# Altium integrated library SUBBOARD-power_stage.IntLib: 46 symbols
Pins are listed as number, name and electrical type; pins without a type are passive.

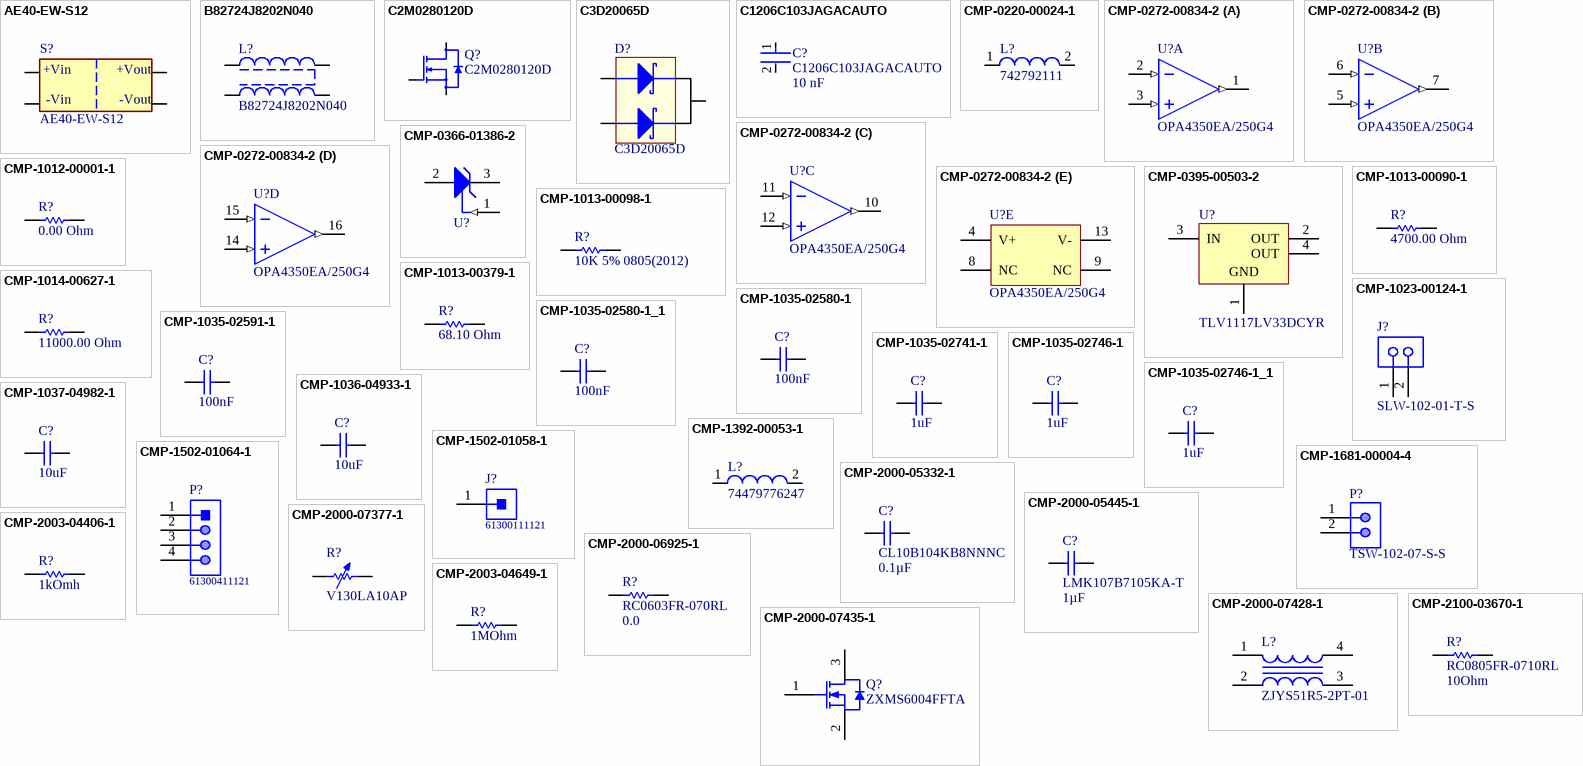
[diagram p0: symbols AE40-EW-S12 to CMP-2100-03670-1]

## AE40-EW-S12
designator S?
DC DC CONVERTER 12V 40W; Manufacturer: CUI; Min Input Voltage: 200V; Max Input Voltage: 1.2kV; Max Output Current: 3.33A; Isolation Voltage: 4kV; Number of Outputs: 1; Efficiency: 83%; Supplier 1: Mouser; Manufacturer Part Number: AE40-EW-S12; RoHS: No; Pricing 1: 1=50,17000, 5=49,78000, 10=49,39000, 25=47,82000, 50=45,46000, 100=42,33000 (USD); Mount: Through Hole; Case/Package: DIP; Min Operating Temperature: -25°C; Max Operating Temperature: 70°C; Voltage - Output 1: 12V; Max Power Dissipation: 40W; Features: OVP,OCP,SCP; ComponentLink1URL: https://www.cui.com/product/resource/digikeypdf/ae40-ew.pdf?src-supplier=Digi-Key; ComponentLink1Description: https://www.cui.com/product/resource/digikeypdf/ae40-ew.pdf?src-supplier=Digi-Key; Supplier Part Number 1: 490-AE40-EW-S12; Supplier 2: Digi-Key; Supplier Part Number 2: 102-4509-ND
footprint AE40-EW-S12
pins: 1 34, 2 33, 3 35, 5 36
text: +Vin; +Vout; -Vin; -Vout

## B82724J8202N040
designator L?
33mH @ 10kHz 2 Line Common Mode Choke Through Hole 2A DCR 200mOhm (Typ); Manufacturer: TDK Electronics Inc.; Number of Lines: 2; Voltage Rating - DC: 800V; Voltage Rating - AC: 200V; Inductance @ Frequency: 33mH @ 10kHz; Current rating (Max.): 2A; DC Resistance (DCR) (Max): 200mOhm; Mounting Type: Thorugh Hole; Height: 33.20mm; Supplier 1: Digi-Key; Supplier Part Number 1: 495-77248-ND
footprint B82724J8202N040 (RING CORE CHOKE 2X33MH 2A +70C)
pins: 1, 2, 3, 4

## C2M0280120D
designator Q?
SiC N-Channel MOSFET, 10 A, 1200 V, 3-Pin TO-247 Wolfspeed C2M0280120D; Manufacturer: Cree; Continuous Drain Current (ID): 10A; Drain to Source Voltage (Vdss): 1.2kV; Threshold Voltage: 2.8V; Max Power Dissipation: 62.5W; Supplier 1: Digi-Key; Manufacturer Part Number: C2M0280120D; Category: MOSFETs; Stock 1: 15119; Pricing 1: 1=5,43000, 100=5,22000, 500=5,08750 (USD); Case/Package: TO-247; Number of Pins: 3; Max Operating Temperature: 150°C; REACH SVHC: No SVHC; ComponentLink1URL: http://www.farnell.com/datasheets/1842462.pdf?src-supplier=Farnell; ComponentLink1Description: http://www.farnell.com/datasheets/1842462.pdf?src-supplier=Farnell; ComponentLink2URL: http://www.farnell.com/datasheets/1842462.pdf?src-supplier=Element14; ComponentLink2Description: http://www.farnell.com/datasheets/1842462.pdf?src-supplier=Element14; ComponentLink3URL: http://www.wolfspeed.com/downloads/dl/file/id/171/product/12/c2m0280120d.pdf?src-supplier=Mouser; ComponentLink3Description: http://www.wolfspeed.com/downloads/dl/file/id/171/product/12/c2m0280120d.pdf?src-supplier=Mouser; ComponentLink4URL: https://www.wolfspeed.com/downloads/dl/file/id/171/product/12/c2m0280120d.pdf?src-supplier=Digi-Key; ComponentLink4Description: https://www.wolfspeed.com/downloads/dl/file/id/171/product/12/c2m0280120d.pdf?src-supplier=Digi-Key; ComponentLink5URL: http://datasheet.octopart.com/C2M0280120D-Wolfspeed-datasheet-32811464.pdf?src-supplier=Element14; ComponentLink5Description: http://datasheet.octopart.com/C2M0280120D-Wolfspeed-datasheet-32811464.pdf?src-supplier=Element14; ComponentLink6URL: http://datasheet.octopart.com/C2M0280120D-Wolfspeed-datasheet-43791788.pdf?src-supplier=TME; ComponentLink6Description: http://datasheet.octopart.com/C2M0280120D-Wolfspeed-datasheet-43791788.pdf?src-supplier=TME; ComponentLink7URL: http://datasheet.octopart.com/C2M0280120D-Cree-datasheet-32811464.pdf?src-supplier=Newark; ComponentLink7Description: http://datasheet.octopart.com/C2M0280120D-Cree-datasheet-32811464.pdf?src-supplier=Newark; ComponentLink8URL: http://datasheet.octopart.com/C2M0280120D-Cree-datasheet-43791788.pdf?src-supplier=TME; ComponentLink8Description: http://datasheet.octopart.com/C2M0280120D-Cree-datasheet-43791788.pdf?src-supplier=TME; Supplier Part Number 1: C2M0280120D-ND; ComponentLink9Description: Dimensions datasheet; ComponentLink9URL: https://www.wolfspeed.com/downloads/dl/file/id/171/product/12/c2m0280120d.pdf
footprint C2M0280120D
footprint TO-247-3_hsa (TO-247-3 package, horizontal, heat sink above)
pins: 1 6, 2 8, 3 7

## C3D20065D
designator D?
Schottky Diodes & Rectifiers Schottky Diode 2X10A, 650V C3D20065D; Manufacturer: Cree; Element Configuration: Common Cathode; Forward Current: 55A; Supplier 2: Digi-Key; Manufacturer Part Number: C3D20065D; RoHS: Yes; Category: Rectifier Diodes; Stock 2: 143; Pricing 2: 1=10,17000, 100=8,47000, 500=7,26004, 1000=6,36001 (USD); Case/Package: TO-247; Number of Pins: 3; Max Repetitive Reverse Voltage (Vrrm): 650V; Packaging: Cut Tape; REACH SVHC: No SVHC; ComponentLink1URL: http://www.mouser.com/ds/2/90/3d20065d_silicon_carbide_schottky_diode_z_rec_rect-838556.pdf?src-supplier=Mouser; ComponentLink1Description: http://www.mouser.com/ds/2/90/3d20065d_silicon_carbide_schottky_diode_z_rec_rect-838556.pdf?src-supplier=Mouser; ComponentLink2URL: http://www.farnell.com/datasheets/1821848.pdf?src-supplier=Element14; ComponentLink2Description: http://www.farnell.com/datasheets/1821848.pdf?src-supplier=Element14; ComponentLink3URL: http://www.wolfspeed.com/media/downloads/102/C3D20065D.pdf?src-supplier=Digi-Key; ComponentLink3Description: http://www.wolfspeed.com/media/downloads/102/C3D20065D.pdf?src-supplier=Digi-Key; Supplier Part Number 2: C3D20065D-ND; Supplier 1: Mouser; Stock 1: 7; Pricing 1: 1 = 10.17000, 100 = 8.47000, 500 = 7.26000, 1000 = 6.36000 (USD); ComponentLink4URL: https://www.wolfspeed.com/downloads/dl/file/id/102/product/74/c3d20065d.pdf?src-supplier=Digi-Key; ComponentLink4Description: https://www.wolfspeed.com/downloads/dl/file/id/102/product/74/c3d20065d.pdf?src-supplier=Digi-Key; Supplier Part Number 1: 941-C3D20065D
footprint C3D20065D
footprint TO-247-3_hsa (TO-247-3 package, horizontal, heat sink above)
pins: 1 14, 2 15, 3 14

## C1206C103JAGACAUTO
designator C?  value 10 nF
Multilayer Ceramic Capacitors MLCC - SMD/SMT 250V 0.01uF C0G 1206 5% AEC-Q200; Manufacturer: KEMET; Temperature Coefficient: 15%; Automotive Grade: Grade 0; Tolerance: 0.05; Temperature Range High: +150°C; Package: C1206C-EB; Voltage Rating: 250 V; Device Class L1: Passive Components; Temperature: -55°C to +150°C; Manufacturer Part Number: C1206C103JAGACAUTO; Device Class L2: Capacitors; Temperature Characteristic: C0G; Octopart: https://octopart.com/c1206c103jagac7210-kemet-105793262; Temperature Range Low: -55°C; Height: 0.88mm; Lead Free: Yes; Mouser Description: Multilayer Ceramic Capacitors MLCC - SMD/SMT 250volts 10nF 5% C0G; Ipc Land Pattern Name: CAPC320160X78; RoHS: TRUE; Device Class L3: Ceramic Capacitors; Capacitance: 10 nF; Material: Ceramic; Automotive: Yes; Category: Cap; ComponentLink2URL: https://api.kemet.com/component-edge/download/specsheet/C1206C103JAGACAUTO.pdf; ComponentLink2Description: Datasheet; Supplier 1: Digi-Key; Supplier Part Number 1: 399-11903-1-ND
footprint FP-C1206C-EB-MFG
footprint FP-C1206C-EB-IPC_C
footprint FP-C1206C-EB-IPC_A
footprint FP-C1206C-EB-IPC_B
pins: 1, 2

## CMP-0220-00024-1
designator L?, comment 742792111
SMD EMI Suppression Ferrite Bead WE-CBF, Z = 26 Ohm; Manufacturer: Wurth Electronics; Impedance: 26 Ohm; ComponentLink2Description: Datasheet; PackageReference: SMD-1206; ComponentLink2URL: http://www.we-online.de/katalog/media/pdf/742792111.pdf; PackageVersion: 2007; DatasheetVersion: Dec-2005; PackageDescription: Chip Inductor, 2-Leads, Body 3.2 x 1.6 mm; ComponentLink1URL: http://www.we-online.com; ComponentLink1Description: Manufacturer Link; Manufacturer Part Number: 742792111
footprint SMD-1206 (Chip Inductor, 2-Leads, Body 3.2x1.6x1.3 mm)
pins: 1, 2

## CMP-0272-00834-2
designator U?, comment OPA4350EA/250G4
High-Speed, Single-Supply, Rail-to-Rail Operational Amplifier MicroAmplifier(TM) Series, 2.7 to 5.5 V, -55 to 150 degC, 16-pin SOP (DBQ16), Green (RoHS & no Sb/Br); Manufacturer: Texas Instruments; Iq per channel(Max)(mA): 7.5; Slew Rate(Typ)(V/us): 22; Sub Family: Low Input Bias Current Amp (<=10pA), Low Offset Voltage Amplifier (<=500uV), Low Supply Voltage Amplifier (<=2.7V), Precision Amplifier; Vn at 1kHz(Typ)(nV/rtHz): 18; CMRR(Min)(dB): 66; Offset Drift(Typ)(uV/C): 4; Vio (25C)(Max)(mV): 0.5; Total Supply Voltage(Min)(+5V is 5, +/-5V is 10): 2.7; IIB(Max)(pA): 10; Total Supply Voltage(Max)(+5V is 5, +/-5V is 10): 5.5; Eco-Plan: Green (RoHS & no Sb/Br); PackageVersion: 4073301-2/H, 10/2008; ComponentLink1Description: Manufacturer URL; ComponentLink2Description: Datasheet; Mounting Technology: Surface Mount; ComponentLink3Description: Package Specification; PackageReference: DBQ16; PartNumber: OPA4350EA/250G4; ComponentLink2URL: http://www.ti.com/general/docs/lit/getliterature.tsp?genericPartNumber=OPA4350&fileType=pdf; ComponentLink1URL: http://www.ti.com/; Code_JEDEC: MO-137; DatasheetVersion: SBOS099C; Number of Channels: 4; ComponentLink3URL: http://www.ti.com/litv/pdf/msoi004g; PackageDescription: 16-Pin, Plastic Small Outline, Body 3.9 x 4.9 mm, Pitch 0.635 mm; Manufacturer 1: Texas Instruments; Manufacturer Part Number 1: OPA4350EA/250G4
footprint TI-DBQ16_L (SOP, 16-Leads, Body 4.9x3.9mm, Pitch 0.635mm, IPC High Density)
footprint TI-DBQ16_N (SOP, 16-Leads, Body 4.9x3.9mm, Pitch 0.635mm, IPC Medium Density)
footprint TI-DBQ16_M (SOP, 16-Leads, Body 4.9x3.9mm, Pitch 0.635mm, IPC Low Density)
part A pins: 1 OUT A (out), 2 IN A- (in), 3 IN A+ (in)
part B pins: 5 IN B+ (in), 6 IN B- (in), 7 OUT B (out)
part C pins: 10 OUT C (out), 11 IN C- (in), 12 IN C+ (in)
part D pins: 14 IN D+ (in), 15 IN D- (in), 16 OUT D (out)
part E pins: 4 V+ (power), 8 NC, 9 NC, 13 V- (power)

## CMP-0366-01386-2
designator U?, comment TLVH431BIPK  (value not drawn)
Low-Voltage Adjustable Precision Shunt Regulator, 80 mA, -40 to 85 degC, 3-pin SOT-89 (PK), Green (RoHS & no Sb/Br); Manufacturer: Texas Instruments; Min Iz for Regulation(uA): 80; SubFamily: Shunt Voltage Reference; Temp Coeff(Max)(ppm/ degree C): 129; Initial Accuracy @ 25/deg C(%): 0.5; VO Adj(Max)(V): 18; Rating: Catalog; VO Adj(Min)(V): 1.24; Code_JEDEC: TO-243; PackageVersion: 4040234/D; PackageReference: PK0003A; ComponentLink1URL: http://www.ti.com/; Eco-Plan: Green (RoHS & no Sb/Br); PackageDescription: 3-Pin Plastic Small Outline, Body 2.5 x 4.5 mm, Pitch 1.5 mm; ComponentLink2URL: http://www.ti.com/general/docs/lit/getliterature.tsp?genericPartNumber=TLVH431B&fileType=pdf; ComponentLink2Description: Datasheet; DatasheetVersion: SLVS555I; ComponentLink3URL: http://www.ti.com/litv/pdf/mhsi001b; ComponentLink1Description: Manufacturer URL; PartNumber: TLVH431BIPK; ComponentLink3Description: Package Specification; Mounting Technology: Surface Mount; Iout/Iz(Max)(mA): 80; Manufacturer 1: Texas Instruments; Manufacturer Part Number 1: TLVH431BIPK
footprint PK0003A_L (SOT89, 3-Leads, Body 4.6x2.6mm, Pitch 1.5mm, IPC High Density)
footprint PK0003A_N (SOT89, 3-Leads, Body 4.6x2.6mm, Pitch 1.5mm, IPC Medium Density)
footprint PK0003A_M (SOT89, 3-Leads, Body 4.6x2.6mm, Pitch 1.5mm, IPC Low Density)
pins: 1 REF (in), 2 ANODE, 3 CATHODE

## CMP-0395-00503-2
designator U?, comment TLV1117LV33DCYR
Single Output LDO, 1 A, Fixed 3.3 V Output, 2 to 5.5 V Input, 4-pin SOT-223 (DCY), -40 to 125 degC, Green (RoHS & no Sb/Br); Manufacturer: Texas Instruments; Vout Adj(Min)(V): 3.3; Vdo(Typ)(mV): 1200; Iq(Typ)(mA): 0.05; Accuracy(%): 2; Iout(Max)(A): 1; SubFamily: Single Channel LDO; Vin(Max)(V): 5.5; PackageReference: DCY0004A; PackageDescription: 4-Pin Plastic Small Outline, Body 3.5 x 6.5 mm, Pitch 2.3 mm; Vout Adj(Max)(V): 3.3; Mounting Technology: Surface Mount; ComponentLink2Description: Datasheet; ComponentLink1Description: Manufacturer URL; PartNumber: TLV1117LV33DCYR; ComponentLink3Description: Package Specification; ComponentLink1URL: http://www.ti.com/; ComponentLink2URL: http://www.ti.com/general/docs/lit/getliterature.tsp?genericPartNumber=TLV1117LV33&fileType=pdf; Fixed Output Options(V): 3.3; PackageVersion: 4202506/B; Vin(Min)(V): 2; DatasheetVersion: SBVS160A; Eco-Plan: Green (RoHS & no Sb/Br); ComponentLink3URL: http://www.ti.com/litv/pdf/mpds094a; Code_JEDEC: TO-261; Manufacturer 1: Texas Instruments; Manufacturer Part Number 1: TLV1117LV33DCYR
footprint DCY0004A_N (SOT223, 4-Leads, Body 6.7x3.7mm, Pitch 2.3mm, IPC Medium Density)
footprint DCY0004A_L (SOT223, 4-Leads, Body 6.7x3.7mm, Pitch 2.3mm, IPC High Density)
footprint DCY0004A_M (SOT223, 4-Leads, Body 6.7x3.7mm, Pitch 2.3mm, IPC Low Density)
pins: 1 GND (power) "Ground pin", 2 OUT (power) "Regulated output voltage pin.", 3 IN (power) "Input pin.", 4 OUT (power) "Regulated output voltage pin."

## CMP-1012-00001-1
designator R?, comment value 0.00 Ohm  (hidden comment: Jumper 0603(1608))
Jumper 0603 (1608 Metric); Manufacturer: Vishay Dale; Manufacturer Part Number: CRCW06030000Z0EC; Manufacturer: Yageo; Manufacturer Part Number: RC0603JR-070RL; Manufacturer: Vishay; Manufacturer Part Number: CRCW0603-0000Z0EA; Manufacturer Part Number: CRCW06030000Z0TA; Manufacturer: Bourns; Manufacturer Part Number: CR0603-J/-000ELF; Manufacturer Part Number: CRCW06030000Z0EB; Manufacturer: Panasonic; Manufacturer Part Number: ERJ-3GEY0R00V; Case-Metric: 1608; Power: None; Case-EIA: 0603; Technology: SMT; Tolerance: None
footprint RESC0603(1608)_N (Chip Resistor, Body 1.6x0.8mm, IPC Medium Density)
footprint RESC0603(1608)_L (Chip Resistor, Body 1.6x0.8mm, IPC High Density)
footprint RESC0603(1608)_M (Chip Resistor, Body 1.6x0.8mm, IPC Low Density)
pins: 1, 2
1 alternate drawing of the same symbol

## CMP-1013-00090-1
designator R?, comment value 4700.00 Ohm  (hidden comment: 4K7 5% 0805(2012))
4K7 0.125W 5% 0805 (2012 Metric)  SMD; Manufacturer 1: Rohm; Manufacturer Part Number 1: MCR10EZPJ472; Case-EIA: 0805; Case-Metric: 2012; Power: 0.125 W; Tolerance: 5 %; Technology: SMT; Manufacturer 2: Vishay Dale; Manufacturer Part Number 2: CRCW08054K70JNTB; Manufacturer 3: Yageo; Manufacturer Part Number 3: RC0805JR-074K7L; Manufacturer 4: Vishay Dale; Manufacturer Part Number 4: CRCW08054K70JNTA; Manufacturer 5: Panasonic; Manufacturer Part Number 5: ERJ-6GEYJ472V; Manufacturer 6: Vishay Dale; Manufacturer Part Number 6: CRCW08054K70JNEA; Manufacturer 7: Bourns; Manufacturer Part Number 7: CR0805-JW-472ELF; Manufacturer 8: Vishay Dale; Manufacturer Part Number 8: CRCW08054K70JNEC; Manufacturer 9: Vishay Dale; Manufacturer Part Number 9: CRCW08054K70JNEB
footprint RESC0805(2012)_N (Chip Resistor, Body 2.0x1.3mm, IPC Medium Density)
footprint RESC0805(2012)_L (Chip Resistor, Body 2.0x1.3mm, IPC High Density)
footprint RESC0805(2012)_M (Chip Resistor, Body 2.0x1.3mm, IPC Low Density)
pins: 1, 2
1 alternate drawing of the same symbol

## CMP-1013-00098-1
designator R?, comment 10K 5% 0805(2012)
10K 0.125W 5% 0805 (2012 Metric)  SMD; Manufacturer: Vishay Dale; Manufacturer Part Number: CRCW080510K0JNEC; Manufacturer Part Number: CRCW080510K0JNTB; Manufacturer: Rohm; Manufacturer Part Number: MCR10EZPJ103; Manufacturer: Bourns; Manufacturer Part Number: CR0805-JW-103ELF; Manufacturer Part Number: CRCW080510K0JNTC; Manufacturer: Yageo; Manufacturer Part Number: RC0805JR-0710KL; Manufacturer Part Number: CRCW080510K0JNEA; Manufacturer: Panasonic; Manufacturer Part Number: ERJ-6GEYJ103V; Manufacturer Part Number: CRCW080510K0JNEB; Manufacturer Part Number: CRCW080510K0JNTA; Case-EIA: 0805; Case-Metric: 2012; Value: 10000.00 Ohm; Power: 0.125 W; Technology: SMT; Tolerance: 5 %
footprint RESC0805(2012)_L (Chip Resistor, Body 2.0x1.3mm, IPC High Density)
footprint RESC0805(2012)_M (Chip Resistor, Body 2.0x1.3mm, IPC Low Density)
footprint RESC0805(2012)_N (Chip Resistor, Body 2.0x1.3mm, IPC Medium Density)
pins: 1, 2
1 alternate drawing of the same symbol

## CMP-1013-00379-1
designator R?, comment value 68.10 Ohm  (hidden comment: 68R1 1% 0805(2012))
68R1 0.125W 1% 0805 (2012 Metric)  SMD; Manufacturer: Panasonic; Manufacturer Part Number: ERJ-6ENF68R1V; Manufacturer: Vishay; Manufacturer Part Number: CRCW080568R1FKEA; Manufacturer: Yageo; Manufacturer Part Number: RC0805FR-0768R1L; Manufacturer: Vishay Dale; Manufacturer Part Number: CRCW080568R1FKTB; Manufacturer: Bourns; Manufacturer Part Number: CR0805-FX-68R1ELF; Manufacturer: Rohm; Manufacturer Part Number: MCR10EZPF68R1; Manufacturer Part Number: CRCW080568R1FKEB; Manufacturer Part Number: CRCW080568R1FKTA; Case-EIA: 0805; Case-Metric: 2012; Power: 0.125 W; Tolerance: 1 %; Technology: SMT
footprint RESC0805(2012)_L (Chip Resistor, Body 2.0x1.3mm, IPC High Density)
footprint RESC0805(2012)_N (Chip Resistor, Body 2.0x1.3mm, IPC Medium Density)
footprint RESC0805(2012)_M (Chip Resistor, Body 2.0x1.3mm, IPC Low Density)
pins: 1, 2
1 alternate drawing of the same symbol

## CMP-1014-00627-1
designator R?, comment value 11000.00 Ohm  (hidden comment: 11K 1% 1206(3216))
11K 0.25W 1% 1206 (3216 Metric)  SMD; Manufacturer: Vishay Dale; Manufacturer Part Number: CRCW120611K0FKEB; Manufacturer: Bourns; Manufacturer Part Number: CR1206-FX-1102ELF; Manufacturer: Rohm; Manufacturer Part Number: MCR18EZPF1102; Manufacturer Part Number: CRCW120611K0FKTC; Manufacturer: Yageo; Manufacturer Part Number: RC1206FR-0711KL; Manufacturer: Panasonic; Manufacturer Part Number: ERJ-8ENF1102V; Manufacturer Part Number: CRCW120611K0FKTA; Manufacturer: Vishay; Manufacturer Part Number: CRCW120611K0FKEA; Manufacturer Part Number: CRCW120611K0FKEC; Case-Metric: 3216; Case-EIA: 1206; Technology: SMT; Power: 0.25 W; Tolerance: 1 %
footprint RESC1206(3216)_N (Chip Resistor, Body 3.2x1.6mm, IPC Medium Density)
footprint RESC1206(3216)_L (Chip Resistor, Body 3.2x1.6mm, IPC High Density)
footprint RESC1206(3216)_M (Chip Resistor, Body 3.2x1.6mm, IPC Low Density)
pins: 1, 2
1 alternate drawing of the same symbol

## CMP-1023-00124-1
designator J?, comment SLW-102-01-T-S
Low Profile Socket Strips, Through-hole, Vertical, -55 to 105 degC, 2.54 mm Pitch, 2-Pin, Female, RoHS; Manufacturer: Samtec; Pitch: 2.54 mm; System: Connector; ComponentLink2Description: Datasheet; PackageReference: SLW-102-01-X-S; Orientation: Vertical; PartNumber: SLW-102-01-T-S; ComponentLink3URL: http://www.samtec.com/documents/webfiles/cpdf/SLW-1XX-01-X-X-MKT.pdf; DatasheetVersion: F-214; Mounting Technology: Through-hole; ComponentLink3Description: Package Specification; ComponentLink2URL: http://www.samtec.com/documents/webfiles/pdf/SLW.PDF; PackageDescription: Low Profile Socket Strip; Temperature Range: -55 to 105 degC; ComponentLink1Description: Manufacturer URL; PackageVersion: X, 9/1987; RoHS: True; ComponentLink1URL: http://www.samtec.com; Manufacturer Part Number: SLW-102-01-T-S
footprint SMTC-SLW-102-01-X-S (Low Profile Socket Strip, 1x2 Pins, Vertical, 2.54mm Pitch, Female)
pins: 1, 2

## CMP-1035-02580-1
designator C?, comment value 100nF  (hidden comment: CAP 100nF 10V 0603(1608))
CAP 100nF 10V ±10% 0603 (1608 Metric) Thickness 1mm SMD; Manufacturer 1: KEMET; Manufacturer Part Number 1: C0603C104K8RACTU; Tolerance: Â±10%; Case-EIA: 0603; Case-Metric: 1608; Max Thickness: 1 mm; Rated Voltage: 10 V; Technology: SMT; Manufacturer 2: Kyocera AVX; Manufacturer Part Number 2: 0603ZC104KAT2A; Manufacturer 3: Vishay Vitramon; Manufacturer Part Number 3: VJ0603Y104KXQPW1BC; Manufacturer 4: KEMET; Manufacturer Part Number 4: C0603C104K8RACTM; Manufacturer 5: Kyocera AVX; Manufacturer Part Number 5: 0603ZC104KAT4A; Manufacturer 6: KEMET; Manufacturer Part Number 6: C0603C104K8RAC; Manufacturer 7: Vishay Vitramon; Manufacturer Part Number 7: VJ0603Y104KXQCW1BC; Manufacturer 8: Kyocera AVX; Manufacturer Part Number 8: 0603ZC104KAT9A
footprint CAPC0603(1608)100_M (Chip Capacitor, Body 1.6x0.8mm, Height 1.0mm, IPC Low Density)
footprint CAPC0603(1608)100_N (Chip Capacitor, Body 1.6x0.8mm, Height 1.0mm, IPC Medium Density)
footprint CAPC0603(1608)100_L (Chip Capacitor, Body 1.6x0.8mm, Height 1.0mm, IPC High Density)
pins: 1, 2
1 alternate drawing of the same symbol

## CMP-1035-02580-1_1
designator C?, comment value 100nF  (hidden comment: CAP 100nF 10V 0603(1608))
CAP 100nF 10V ±10% 0603 (1608 Metric) Thickness 1mm SMD; Manufacturer: KEMET; Manufacturer Part Number: C0603C104K8RACTU; Manufacturer: Kyocera AVX; Manufacturer Part Number: 0603ZC104KAT2A; Manufacturer: Vishay Vitramon; Manufacturer Part Number: VJ0603Y104KXQPW1BC; Manufacturer Part Number: C0603C104K8RACTM; Manufacturer Part Number: 0603ZC104KAT4A; Manufacturer Part Number: C0603C104K8RAC; Manufacturer Part Number: VJ0603Y104KXQCW1BC; Manufacturer Part Number: 0603ZC104KAT9A; Tolerance: Â±10%; Case-EIA: 0603; Case-Metric: 1608; Max Thickness: 1 mm; Rated Voltage: 10 V; Technology: SMT
footprint CAPC0603(1608)100_M (Chip Capacitor, Body 1.6x0.8mm, Height 1.0mm, IPC Low Density)
footprint CAPC0603(1608)100_N (Chip Capacitor, Body 1.6x0.8mm, Height 1.0mm, IPC Medium Density)
footprint CAPC0603(1608)100_L (Chip Capacitor, Body 1.6x0.8mm, Height 1.0mm, IPC High Density)
pins: 1, 2
1 alternate drawing of the same symbol

## CMP-1035-02591-1
designator C?, comment value 100nF  (hidden comment: CAP 100nF 50V 0603(1608))
CAP 100nF 50V ±5% 0603 (1608 Metric) Thickness 1mm SMD; Manufacturer 1: KEMET; Manufacturer Part Number 1: C0603C104J5RACTM; Tolerance: Â±5%; Case-Metric: 1608; Case-EIA: 0603; Rated Voltage: 50 V; Max Thickness: 1 mm; Technology: SMT; Manufacturer 2: KEMET; Manufacturer Part Number 2: C0603C104J5RAC; Manufacturer 3: Yageo; Manufacturer Part Number 3: CC0603JRX7R9BB104; Manufacturer 4: Kyocera AVX; Manufacturer Part Number 4: 06035C104JAT2A; Manufacturer 5: Vishay Vitramon; Manufacturer Part Number 5: VJ0603Y104JXACW1BC; Manufacturer 6: KEMET; Manufacturer Part Number 6: C0603C104J5RACTU; Manufacturer 7: Vishay; Manufacturer Part Number 7: VJ0603Y104JXAPW1BC
footprint CAPC0603(1608)100_L (Chip Capacitor, Body 1.6x0.8mm, Height 1.0mm, IPC High Density)
footprint CAPC0603(1608)100_N (Chip Capacitor, Body 1.6x0.8mm, Height 1.0mm, IPC Medium Density)
footprint CAPC0603(1608)100_M (Chip Capacitor, Body 1.6x0.8mm, Height 1.0mm, IPC Low Density)
pins: 1, 2
1 alternate drawing of the same symbol

## CMP-1035-02741-1
designator C?, comment value 1uF  (hidden comment: CAP 1uF 25V 0603(1608))
CAP 1uF 25V ±20% 0603 (1608 Metric) Thickness 1mm SMD; Manufacturer 1: TDK; Manufacturer Part Number 1: C1608X7R1E105M; Tolerance: Â±20%; Case-EIA: 0603; Case-Metric: 1608; Max Thickness: 1 mm; Technology: SMT; Rated Voltage: 25 V; Manufacturer 2: TDK; Manufacturer Part Number 2: C1608X6S1E105M; Manufacturer 3: TDK; Manufacturer Part Number 3: C1608X5R1E105M; Manufacturer 4: KEMET; Manufacturer Part Number 4: C0603C105M3PACTU; Manufacturer 5: KEMET; Manufacturer Part Number 5: C0603C105M3PAC
footprint CAPC0603(1608)100_M (Chip Capacitor, Body 1.6x0.8mm, Height 1.0mm, IPC Low Density)
footprint CAPC0603(1608)100_N (Chip Capacitor, Body 1.6x0.8mm, Height 1.0mm, IPC Medium Density)
footprint CAPC0603(1608)100_L (Chip Capacitor, Body 1.6x0.8mm, Height 1.0mm, IPC High Density)
pins: 1, 2
1 alternate drawing of the same symbol

## CMP-1035-02746-1
designator C?, comment value 1uF  (hidden comment: CAP 1uF 50V 0603(1608))
CAP 1uF 50V ±20% 0603 (1608 Metric) Thickness 1mm SMD; Manufacturer 1: TDK; Manufacturer Part Number 1: C1608X5R1H105M; Tolerance: Â±20%; Case-EIA: 0603; Case-Metric: 1608; Technology: SMT; Max Thickness: 1 mm; Rated Voltage: 50 V; Manufacturer 2: TDK; Manufacturer Part Number 2: C1608X6S1H105M
footprint CAPC0603(1608)100_N (Chip Capacitor, Body 1.6x0.8mm, Height 1.0mm, IPC Medium Density)
footprint CAPC0603(1608)100_M (Chip Capacitor, Body 1.6x0.8mm, Height 1.0mm, IPC Low Density)
footprint CAPC0603(1608)100_L (Chip Capacitor, Body 1.6x0.8mm, Height 1.0mm, IPC High Density)
pins: 1, 2
1 alternate drawing of the same symbol

## CMP-1035-02746-1_1
designator C?, comment value 1uF  (hidden comment: CAP 1uF 50V 0603(1608))
CAP 1uF 50V ±20% 0603 (1608 Metric) Thickness 1mm SMD; Manufacturer: TDK; Manufacturer Part Number: C1608X5R1H105M; Manufacturer Part Number: C1608X6S1H105M; Tolerance: Â±20%; Case-EIA: 0603; Case-Metric: 1608; Technology: SMT; Max Thickness: 1 mm; Rated Voltage: 50 V
footprint CAPC0603(1608)100_N (Chip Capacitor, Body 1.6x0.8mm, Height 1.0mm, IPC Medium Density)
footprint CAPC0603(1608)100_M (Chip Capacitor, Body 1.6x0.8mm, Height 1.0mm, IPC Low Density)
footprint CAPC0603(1608)100_L (Chip Capacitor, Body 1.6x0.8mm, Height 1.0mm, IPC High Density)
pins: 1, 2
1 alternate drawing of the same symbol

## CMP-1036-04933-1
designator C?, comment value 10uF  (hidden comment: CAP 10uF 25V 0805(2012))
CAP 10uF 25V ±20% 0805 (2012 Metric) Thickness 1.45mm SMD; Manufacturer 1: TDK; Manufacturer Part Number 1: C2012X5R1E106M; Case-EIA: 0805; Tolerance: Â±20%; Case-Metric: 2012; Max Thickness: 1.45 mm; Rated Voltage: 25 V; Technology: SMT
footprint CAPC0805(2012)145_N (Chip Capacitor, Body 2.0x1.2mm, Height 1.45mm, IPC Medium Density)
footprint CAPC0805(2012)145_L (Chip Capacitor, Body 2.0x1.2mm, Height 1.45mm, IPC High Density)
footprint CAPC0805(2012)145_M (Chip Capacitor, Body 2.0x1.2mm, Height 1.45mm, IPC Low Density)
pins: 1, 2
1 alternate drawing of the same symbol

## CMP-1037-04982-1
designator C?, comment value 10uF  (hidden comment: CAP 10uF 50V 1206(3216))
CAP 10uF 50V ±10% 1206 (3216 Metric) Thickness 1.9mm SMD; Manufacturer 1: TDK; Manufacturer Part Number 1: C3216X5R1H106K; Case-EIA: 1206; Tolerance: Â±10%; Case-Metric: 3216; Technology: SMT; Max Thickness: 1.9 mm; Rated Voltage: 50 V
footprint CAPC1206(3216)190_M (Chip Capacitor, Body 3.2x1.6mm, Height 1.9mm, IPC Low Density)
footprint CAPC1206(3216)190_N (Chip Capacitor, Body 3.2x1.6mm, Height 1.9mm, IPC Medium Density)
footprint CAPC1206(3216)190_L (Chip Capacitor, Body 3.2x1.6mm, Height 1.9mm, IPC High Density)
pins: 1, 2
1 alternate drawing of the same symbol

## CMP-1392-00053-1
designator L?, comment 74479776247
Power Multilayer Inductor WE-PMI, L=4.70 µH; Manufacturer: Wuerth Elektronik; Manufacturer: Wurth Electronics; Inductance: 4.70 ÂµH; ComponentLink2URL: http://katalog.we-online.de/kataloge/eisos/media/pdf/74479776247A.pdf; PartNumber: 74479776247; ComponentLink2Description: Datasheet; ComponentLink1Description: Manufacturer URL; PackageReference: SMD 0806; ComponentLink1URL: http://www.we-online.com; Manufacturer Part Number: 74479776247
footprint SMD 0806 (Chip Inductor, 2-Leads, Body 2.1x1.6mm, IPC Medium Density)
pins: 1, 2

## CMP-1502-01058-1
designator J?, comment 61300111121
THT Vertical Pin Header WR-PHD, Pitch 2.54 mm, Single Row, 1 pins; Manufacturer: Wurth Elektronik; Manufacturer: Wurth Electronics; Gender: Male; Working Voltage: 250VAC; Withstanding Voltage: 500VAC; Pin Number: 1; Contact Resistance: 20mOhm; Rated Current: 3A; Pitch: 2.54mm; Mounting Technology: THT; Datasheet URL: https://katalog.we-online.de/em/datasheet/6130xx11121.pdf; Manufacturer URL: http://www.we-online.de; Operating Temperature: -40to105degC; Publisher: WurthElektronik; Part Number: 61300111121; Row Number: Single; Package Reference: 61300111121; Orientation: Vertical; Packaging: Bag; Manufacturer Part Number: 61300111121
footprint 61300111121 (Pin Header, pitch 2.54 mm, THT, Vertical, single row, 1p)
pins: 1

## CMP-1502-01064-1
designator P?, comment 61300411121
THT Vertical Pin Header WR-PHD, Pitch 2.54 mm, Single Row, 4 pins; Manufacturer: Wurth Elektronik; Manufacturer 1: Wurth Electronics; Withstanding Voltage: 500VAC; Rated Current: 3A; Working Voltage: 250VAC; Pin Number: 4; Gender: Male; Contact Resistance: 20mOhm; Pitch: 2.54mm; Manufacturer URL: http://www.we-online.de; Operating Temperature: -40to105degC; Packaging: Bag; Mounting Technology: THT; Package Reference: 61300411121; Datasheet URL: https://katalog.we-online.de/em/datasheet/6130xx11121.pdf; Publisher: WurthElektronik; Part Number: 61300411121; Row Number: Single; Orientation: Vertical; Manufacturer Part Number 1: 61300411121
footprint 61300411121 (Pin Header, pitch 2.54 mm, THT, Vertical, single row, 4p)
pins: 1, 2, 3, 4

## CMP-1681-00004-4
designator P?, comment TSW-102-07-S-S
Male Header, Pitch 2.54 mm, 1 x 2 Position, Height 8.38 mm, Tail Length 2.54 mm, -55 to 125 degC, RoHS, Bulk; Manufacturer: Samtec; Rows: 1; ComponentLink1URL: http://www.samtec.com/; Contact Finish: Gold; Mounting Technology: Through Hole; PackageReference: TSW-102-07-S-S; RoHSCompliant: true; Pins: 2; Contact Material: Bronze; ComponentLink2Description: Datasheet; Max Operating Temperature: 125 degC; Min Operating Temperature: -55 degC; Height: 8.38 mm; Packaging: Bulk; ComponentLink1Description: Manufacturer URL; PackageDescription: Male Header, Pitch 2.54 mm, 1 x 2 Position, Height 8.38 mm, Tail Length 2.54 mm; Colour: Black; Contact Plating: Gold; Length: 5.08 mm; ComponentLink2URL: http://suddendocs.samtec.com/catalog_english/tsw_th.pdf; DatasheetVersion: 12/2015; Mount: Through Hole; Lead Pitch: 0.1 inch; REACH SVHC: No SVHC; Package Quantity: 1; Manufacturer Part Number: TSW-102-07-S-S
footprint SMTC-TSW-102-07-S-S (Header, 2-Leads, Body 5.08x2.54mm, Pitch 2.54mm)
pins: 1, 2

## CMP-2000-05332-1
designator C?, comment CL10B104KB8NNNC  Capacitance: 0.1µF
Multi-layer Ceramic Capacitor, -55 to 125 degC, 2-Pin SMD (0603), RoHS, Tape and Reel; Manufacturer: Samsung Electro-Mechanics; Manufacturer: Samsung; Rated Voltage: 50V; Dielectric: X7R; Tolerance (%): ±10%; Case Size/Dimension: 0603; Datasheet URL: https://datasheet.ciiva.com/29198/456651-da-01-en-vs-kondensator-0605-29198839.pdf; Manufacturer URL: http://www.samsungsem.com/global/index.jsp; Datasheet Version: Nov-10; Manufacturer Part Number: CL10B104KB8NNNC
footprint SAMS-C0603-2_M (Chip Capacitor, 2-Leads, Body 1.70x0.90mm, IPC Low Density)
footprint SAMS-C0603-2_N (Chip Capacitor, 2-Leads, Body 1.70x0.90mm, IPC Medium Density)
footprint SAMS-C0603-2_L (Chip Capacitor, 2-Leads, Body 1.70x0.90mm, IPC High Density)
pins: 1, 2

## CMP-2000-05445-1
designator C?, comment LMK107B7105KA-T  Capacitance: 1µF
High Value Multilayer Ceramic Capacitor, 1 uF, +/- 10%, 10 V, -55 to 125 degC, 0603 (1608 Metric), RoHS, Tape and Reel; Manufacturer: Taiyo Yuden; PCN Part Number: X5R,X7RDielectrics23/Jan/2008; Voltage - Rated: 10V; Temperature Coefficient: X7R; Other Names: 587-1242-1; Kits: 587-1797-KIT-ND-KITCAPCERHICAP0603&0805S; Online Catalog: MSeries; Catalog Drawings: xMKSeries_0603_0.8; Package / Case: 0603(1608Metric); Features: -; Package Description: 2-Pin Surface Mount Device, Body 1.6 x 0.8 mm; Lead Style: -; Manufacturer URL: http://www.t-yuden.com/; Package Reference: 603; Datasheet URL: https://datasheet.ciiva.com/30248/464lmk107b7105ka-t-30248417.pdf; Tolerance: ±10%; Size / Dimension: 0.063"Lx0.031"W(1.60mmx0.80mm); Family: CeramicCapacitors; Standard Package: 1; Height - Seated (Max): -; Series: M; Mounting Type: SurfaceMount,MLCC; Thickness (Max): 0.035"(0.90mm); Packaging: CutTape(CT); Operating Temperature: -55degC~125degC; Applications: GeneralPurpose; Lead Spacing: -; Datasheet Version: Apr-14; Ratings: -; Category: Capacitors; Manufacturer Part Number: LMK107B7105KA-T
footprint CAPC1608X90X35ML10T25 (Chip Capacitor, 2-Leads, Body 1.70x0.90mm, IPC Low Density)
footprint CAPC1608X90X35NL10T25 (Chip Capacitor, 2-Leads, Body 1.70x0.90mm, IPC Medium Density)
footprint CAPC1608X90X35LL10T25 (Chip Capacitor, 2-Leads, Body 1.70x0.90mm, IPC High Density)
pins: 1, 2

## CMP-2000-06925-1
designator R?, comment RC0603FR-070RL  Resistance (Ohms): 0.0
Chip Resistor, 0 Ohm, +/- 1%, 100 mW, -55 to 155 degC, 0603 (1608 Metric), RoHS, Tape and Reel; Manufacturer: Yageo; Power (Watts): 0.1W,1/10W; HTML Datasheet: RCSeries,LSuffixDatasheet.html; PCN Other: RC/AC0603/0805/120622/Jan/2013; Online Catalog: RC0603Series; EDA / CAD Models: DownloadfromAcceleratedDesigns; Other Names: 311-0.0HRTRQ3106287ARC0603FR-070RL-ND; Catalog Drawings: ThickFilmResistorSide; Tolerance: Jumper; Manufacturer URL: http://www.yageo.com/; Family: ChipResistor-SurfaceMount; Product Training Modules: ChipResistor; Number of Terminations: 2; Package / Case: 0603(1608Metric); Datasheet Version: Rev. 7, 05/2017; Operating Temperature: -55°C~155°C; Height: 0.022"(0.55mm); Packaging: Tape&Reel(TR); Size / Dimension: 0.063"Lx0.031"W(1.60mmx0.80mm); Package Description: 2-Pin Surface Mount Device, Body 1.6 x 0.8 mm; Package Reference: 0603; Mounting Technology: SurfaceMount; Features: MoistureResistant; Temperature Coefficient: -; Supplier Device Package: 0603; Datasheet URL: http://www.yageo.com/documents/recent/PYu-RC_Group_51_RoHS_L_7.pdf; Standard Package: 5,000; Series: RC; Category: Resistors; Composition: ThickFilm; Manufacturer Part Number: RC0603FR-070RL
footprint RESC1608X55X25LL10T15 (Chip Resistor, 2-Leads, Body 1.60x0.80mm, IPC High Density)
footprint RESC1608X55X25ML10T15 (Chip Resistor, 2-Leads, Body 1.70x0.90mm, IPC Low Density)
footprint RESC1608X55X25NL10T15 (Chip Resistor, 2-Leads, Body 1.70x0.90mm, IPC Medium Density)
pins: 1, 2

## CMP-2000-07377-1
designator R?, comment V130LA10AP
LA Varistor Series, 50 A, -55 to 85 degC, 2-Pin THD, RoHS, Bulk; Manufacturer: Littelfuse; Rated Voltage: 175V; Capacitance: 1000pF; Peak Output Current: 4500A; Clamping Voltage-Max: 340V; RMS Voltage-Max: 130V; Datasheet URL: https://datasheet.ciiva.com/11834/0900766b80785545-11834301.pdf; Package Description: 2-Pin Through Hole Device, Body 17 x 5.6 mm, Pitch 7.5 mm; Manufacturer URL: http://www.littelfuse.com/; Package Reference: V130LA10AP; Datasheet Version: 07/2006; Mounting Technology: ThroughHole
footprint LFUS-V130LA10AP (THD, 2-Leads, Body 17x5.6mm, Pitch 7.5mm)
pins: 1, 2

## CMP-2000-07428-1
designator L?, comment ZJYS51R5-2PT-01
Common Mode Filter, 2 A, 120 mOhm, -25 to 85 degC, 4-Pin SMD, RoHS, Tape and Reel; Manufacturer: TDK; Manufacturer Part Number: ZJYS51R52PT01; SVHC: NoSVHC(15-Jun-2015); Impedance: 200ohm; Product Range: ZJYS51Series; Common Mode Filter Case: 6.86mmx5.5mmx4.57mm; Rated Current: 2A; Package Reference: ZJYS51R5-2PT-01; Package Description: 4-Pin Surface Mount Device, Body 6.86 x 5.5 mm, Pitch 2.54 mm; Automotive Qualification Standard: -; Manufacturer URL: http://www.tdk.com/; Datasheet Version: 05/2016; Datasheet URL: https://product.tdk.com/info/en/documents/wdcatalog/withdrawn_cmf_commercial_signal_zjys51r5_en.pdf; Mounting Technology: SurfaceMount; Inductance: -
footprint TDK-ZJYS51R5-2PT-01_V (SMD, 4-Leads, Body 6.86x5.5mm, Pitch 2.54mm)
pins: 1, 2, 3, 4

## CMP-2000-07435-1
designator Q?, comment ZXMS6004FFTA
N-Channel Self Protected Enhancement Mode Intellifet(TM) MOSFET, 60 V, 1.3 A, -40 to 150 degC, 3-Pin SOT23, RoHS, Tape and Reel; Manufacturer: Diodes Inc; Manufacturer: Diodes Zetex; Voltage - Load: 60V(Max); Current - Output (Max): 1.3A; Featured Product: ZXMS6004FF60VN-ChannelMOSFET; Product Training Modules: IntelliFET's; Rds On (Typ): 350mOhm; Input Type: Non-Inverting; Interface: On/Off; Number of Outputs: 1; Ratio - Input: Output:1:1; Output Configuration: LowSide; Voltage - Supply (Vcc/Vdd): 3.3V,5V; PCN Design/Specification: PartMarkingUpdate25/Sep/2015; Switch Type: GeneralPurpose; Fault Protection: CurrentLimiting(Fixed),OverTemperature,OverVoltage; Other Names: ZXMS6004FFTR; Category: IntegratedCircuits(ICs); Operating Temperature: -40°C~150°C(TJ); Features: AutoRestart; Manufacturer URL: http://www.diodes.com/; Datasheet URL: https://datasheet.ciiva.com/15109/getdatasheetpartid-411522-15109086.pdf; Package Reference: SOT23F-3; Family: PMIC-PowerDistributionSwitches,LoadDrivers; Package Description: 3-Pin Small Outline Transistor Flat Lead, Body 2.9 x 1.6 mm, Pitch 0.95 mm; Output Type: N-Channel; Supplier Device Package: SOT-23F; RoHS Information: RoHSCertofCompliance; Package / Case: SOT-23-3FlatLeads; Packaging: Tape&Reel(TR); Datasheet Version: Rev. 6-2, 10/2014; Mounting Technology: SurfaceMount; Series: Automotive,AEC-Q101,INTELLIFET®; Online Catalog: GeneralPurpose; Standard Package: 3,000; Manufacturer Part Number: ZXMS6004FFTA
footprint DIOD-SOT23F-3_V (SOTFL, 3-Leads, Body 2.9x1.6mm, Pitch 0.95mm)
pins: 1 G, 2 S, 3 D

## CMP-2003-04406-1
designator R?, comment 1kOmh
Part Number: ERA8AEB102V; Manufacturer: Panasonic; Manufacturer Part Number: ERA8AEB102V
footprint RESC3216X70X50LL20T25 (Chip Resistor, 2-Leads, Body 3.20x1.60mm, IPC High Density)
footprint RESC3216X70X50ML20T25 (Chip Resistor, 2-Leads, Body 3.20x1.60mm, IPC Low Density)
footprint RESC3216X70X50NL20T25 (Chip Resistor, 2-Leads, Body 3.20x1.60mm, IPC Medium Density)
pins: 1, 2
1 alternate drawing of the same symbol

## CMP-2003-04649-1
designator R?, comment 1MOhm
Part Number: TNPW12061M00BEEA; Manufacturer: Vishay Dale; Manufacturer Part Number: TNPW12061M00BEEA
footprint RESC3216X65X50LL15T25 (Chip Resistor, 2-Leads, Body 3.20x1.60mm, IPC High Density)
footprint RESC3216X65X50NL15T25 (Chip Resistor, 2-Leads, Body 3.20x1.60mm, IPC Medium Density)
footprint RESC3216X65X50ML15T25 (Chip Resistor, 2-Leads, Body 3.20x1.60mm, IPC Low Density)
pins: 1, 2
1 alternate drawing of the same symbol

## CMP-2100-03670-1
designator R?, comment RC0805FR-0710RL  Resistance: 10Ohm
Chip Resistor, 10 Ohm, +/- 1%, 0.125 W, -55 to 155 degC, 0805 (2012 Metric), RoHS, Tape and Reel; Manufacturer: Yageo; Power Rating: 125mW; Voltage Rating: 150V; Temperature Coefficient: 200ppm/degreesC; Number of Pins: 2; REACH SVHC: NoSVHC; Datasheet Version: Rev. 5, 10/2016; Max Operating Temperature: 155degC; Manufacturer URL: http://www.yageo.com/; Case Code (Imperial): 0805; Package Description: 2-Pin Surface Mounted Device, Body 2 x 1.25 mm; Case Code (Metric): 2012; Length: 2mm; RoHSCompliant: true; Max Power Dissipation: 125mW; Depth: 1.25mm; Packaging: TapeandReel; Height: 0.5mm; Package Reference: 0805; Package Quantity: 1; Tolerance: 1%; Termination: SMD/SMT; Min Operating Temperature: -55degC; Lead Free: LeadFree; Width: 1.25mm; Voltage Rating (DC): 150V; Datasheet URL: http://www.yageo.com/NewPortal/yageodocoutput?fileName=/pdf/R-Chip/PYu-RC_Group_51_RoHS_L_5.pdf; Composition: ThickFilm; Number of Terminations: 2; Case/Package: 0805; Manufacturer Part Number: RC0805FR-0710RL
footprint RESC2013X60X35ML10T20 (Chip Resistor, 2-Leads, Body 2.1x1.35mm, IPC Low Density)
footprint RESC2013X60X35NL10T20 (Chip Resistor, 2-Leads, Body 2.1x1.35mm, IPC Medium Density)
footprint RESC2013X60X35LL10T20 (Chip Resistor, 2-Leads, Body 2.00x1.25mm, IPC High Density)
pins: 1, 2

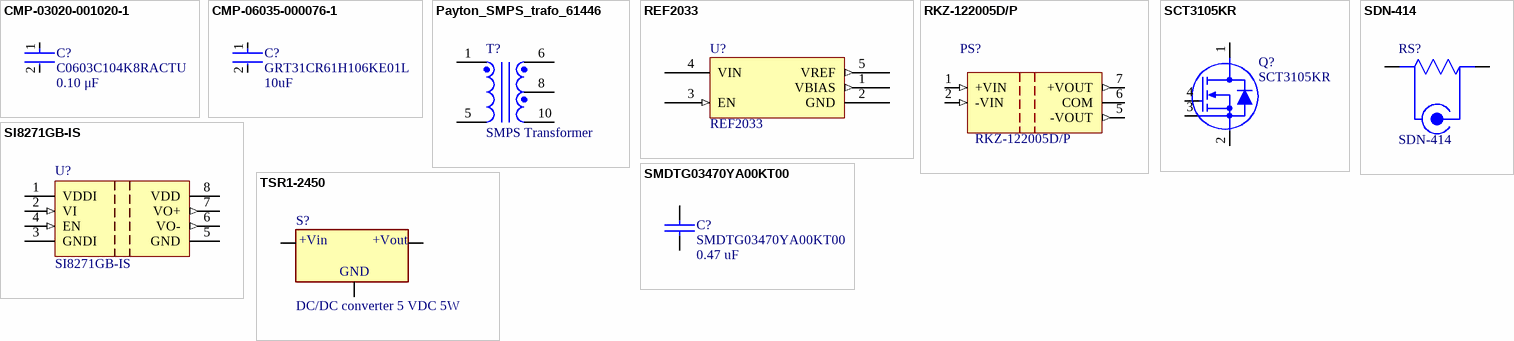
[diagram p1: symbols CMP-03020-001020-1 to TSR1-2450]

## CMP-03020-001020-1
designator C?, comment C0603C104K8RACTU  value 0.10 μF
CAP CER 0.1UF 10V X7R 0603; Manufacturer: KEMET; Tolerance: 0.1; Material: Ceramic; Temperature Coefficient: 30ppm/°C; Automotive Grade: Grade 1; Digikey Description: CAP CER 0.1UF 10V X7R 0603; Temperature Range High: +125°C; RoHS: TRUE; ComponentLink2URL: https://api.kemet.com/component-edge/download/datasheet/C0603C100J5GACAUTO.pdf; Lead Free: Yes; Device Class L2: Capacitors; Mouser Description: Multilayer Ceramic Capacitors MLCC - SMD/SMT 10volts 0.1uF X7R 10%; Temperature: -55°C to +125°C; Category: Cap; Height: 0.87mm; Voltage Rating: 10 V; Device Class L3: Ceramic Capacitors; ComponentLink2Description: Datasheet; Automotive: Yes; Manufacturer Part Number: C0603C104K8RACTU; Octopart: https://octopart.com/c0603c104k8ractu-kemet-145075; Temperature Characteristic: X7R; Device Class L1: Passive Components; Temperature Range Low: -55°C; Package: C0603C-CF; Capacitance: 0.10 μF
footprint FP-C0603C-CF-MFG
footprint FP-C0603C-CF-IPC_C
footprint FP-C0603C-CF-IPC_B
footprint FP-C0603C-CF-IPC_A
pins: 1, 2

## CMP-06035-000076-1
designator C?, comment GRT31CR61H106KE01L  value 10uF
CAP CER 10UF 50V X5R 1206; Manufacturer: Murata; Temperature Coefficient: 15%; Tolerance: 10%; Material: Ceramic; Automotive Grade: Grade 3; Height: 1.8mm; Ipc Land Pattern Name: CAPC320160X160; Octopart: https://octopart.com/grt31cr61h106ke01l-murata-62921736; Digikey Description: CAP CER 10UF 50V X5R 1206; Voltage Rating: 50V; Device Class L3: Ceramic Capacitors; ComponentLink2URL: https://search.murata.co.jp/Ceramy/image/img/A01X/G101/ENG/GRT31CR61H106KE01-01.pdf; Device Class L1: Passive Components; Temperature Range High: +85°C; Lead Free: Yes; Capacitance: 10uF; Manufacturer Part Number: GRT31CR61H106KE01L; Temperature Range Low: -55°C; Temperature Characteristic: X5R; Category: Cap; Automotive: Yes; ComponentLink2Description: Datasheet; Device Class L2: Capacitors; Package: GRT31-0.2; RoHS: TRUE; Temperature: -55°C to +85°C
footprint FP-GRT31-0_2-MFG
footprint FP-GRT31-0_2-IPC_C
footprint FP-GRT31-0_2-IPC_B
footprint FP-GRT31-0_2-IPC_A
pins: 1, 2

## Payton_SMPS_trafo_61446
designator T?, comment SMPS Transformer
1400W SMPS Transformer Payton 61446; Generic Type: T250AC-24-18C; Total Output Power (after rectifier): 1400W (140 Vdc/ 10 Adc); Transformer Operating Frequency: 150 kHz; Topology: Half Bridge; Input Voltage: 750-1000 Vdc; Transformer Input Voltage: 374-499 Vdc; Operating duty cicle, max.: 1 (0,5*2); Operating Volt-second product, max.: 2500 (1250*2) V-usec.; Primary Current, max.: 4,07 Arms (4,2 Apeak); Pri. to half Sec. ratio (Sec current, max. - 7,07 Arms): 24:9; Dielectric Strength (Pri. to Sec.): 2000 Vrms; Dielectric Strength (Pri.+Sec. to Core): 500 Vdc; Estimated Power Losses: 15W; Estimated Hot Spot Temperature (With heatsink of 85°C max attached): 110 °C; Ambient Temperature Range: - 40 °C to 85°C; Mechanical Dimension - Length (For reference only): 67 mm.; Mechanical Dimension - Width (For reference only): 65 mm.; Mechanical Dimension - Height (For reference only): 32 mm.
footprint Payton_SMPS_trafo_61446
pins: 1 0, 5 1, 6 1, 8 6, 10 0

## REF2033
designator U?
REF20xx Low-Drift, Low-Power, Dual-Output, VREF and VREF / 2 Voltage References; Supplier 1: Mouser; Supplier 2: Digi-Key; Supplier Part Number 1: 595-REF2033AIDDCR; Supplier Part Number 2: 296-46177-1-ND
footprint SOT95P245X110-5N (SOT23, 5-Leads, Body 2,90x2,45mm, Pitch 0,95mm, IPC Medium Density)
pins: 1 VBIAS (out), 2 GND (power), 3 EN (in), 4 VIN (power), 5 VREF (out)

## RKZ-122005D/P
designator PS?
2W DC/DC-Converter 'ECONOLINE' SIP7 3kV unreg; MF: Recom Power; Price: None; SnapEDA_Link: https://www.snapeda.com/parts/RKZ-122005D/P/Recom%20Power/view-part/3641525/?ref=snap; Package: SIP-7 Recom Power; Availability: Unavailable; MP: RKZ-122005D/P; Value: *; Supplier 1: Digi-Key; Supplier Part Number 1: 945-3366-ND
footprint *CONV_RKZ-122005D/P
pins: 1 +VIN (in), 2 -VIN (in), 5 -VOUT (out), 6 COM (power), 7 +VOUT (out)

## SCT3105KR
designator Q?
N-channel SiC power MOSFET ROHM. Vdss 1200V, Rdson 105mOhm, Id 24A; Rds on @ Id, Vgs: 137 mOhm; Drive Voltage: 18 V; Gate Charge (Qg) (Max) @ Vds: 51 nC; Vgs Max: +22 V / -4 V; Input Capacitance (Ciss) (Max) @ Vds: 574pF @ 800V; Supplier 1: Mouser; Supplier 2: Digi-Key; Supplier 3: Farnell; Supplier 4: Newark; Supplier Part Number 4: 34AH2699; Supplier Part Number 3: 3241766; Supplier Part Number 2: 846-SCT3105KRC14-ND; Supplier Part Number 1: 755-SCT3105KRC14; FET type: N-Channel; Technology: SiC-FET; Drain-to-source voltage (Vdss): 1200 V; Current - continuous drain (Id) @ 25°C: 24 A; Package/Case: TO-247-4
footprint TO-247-4L_hsa (TO-247-4L package, horizontal, heat sink above)
pins: 1 D "Drain", 2 S "Power Source", 3 KS "Kelvin Source", 4 G "Gate"

## SDN-414
designator RS?
Coaxial current shunt SDN-414 T&M; Manufacturer_Part_Number: WHE10RFET; Vendor: Ohmite; Built_By: EMA_UL_Team; Resistance: 10 Ohm; Power rating: 5 W; Tolerance: 1%; Copyright: Copyright (C) 2018 Accelerated Designs. All rights reserved; RefDes: RefDes; Type: DEV; Value: Value; Supplier 1: Digi-Key; Supplier Part Number 1: WHE10RFETCT-ND
footprint SDN-414 (SDN-414 coaxial current shunt)
pins: 1 -, 2 +

## SI8271GB-IS
designator U?
4A Gate Driver Capacitive Coupling 2500Vrms 1 Channel 8-SOIC SI8271GB-IS - Silicon Labs; Supplier 1: Digi-Key; Supplier Part Number 1: 336-3533-5-ND; Case/Package: SOIC 8
footprint SOIC127P600X265-8L (SOIC, 8-Leads, Body 4,90x3,90mm, Pitch 1,27mm, IPC High Density)
pins: 1 VDDI (power), 2 VI (in), 3 GNDI (power), 4 EN (in), 5 GND (power), 6 VO- (out), 7 VO+ (out), 8 VDD (power)

## SMDTG03470YA00KT00
designator C?  Capacitance: 0.47 uF
0.47µF Film Capacitor 200V 400V Polyester, Polyethylene Terephthalate (PET), Metallized 6054 (153137 Metric) WIMA SMDTG03470YA00KT00; Tolerance: ±10%; Voltage Rating (AC): 200 V; Voltage Rating (DC): 400 V; Manufacturer: WIMA; Manufacturer Part Number: SMDTG03470YA00KT00; Dielectric Material: Polyester, Polyethylene Terephthalate (PET), Metallized; Mounting Type: Surface Mount, SMD; Package / Case: 6054 (153137 Metric); Operating Temperature: -55°C ~ 100°C; Supplier 1: Digi-Key; Supplier Part Number 1: 1928-1966-1-ND
footprint 6054 SMDTG03470YA00KT00 (6054 package for SMDTG03470YA00KT00   capacitor)
pins: 1, 2

## TSR1-2450
designator S?, comment DC/DC converter 5 VDC 5W
DC/DC converter 5 VDC 1000 mA, TSR 1-2450, Traco Power; Number of Outputs: 1; Nominal Output Voltage: 5V; Max Output Current: 1A; Efficiency: 84%; Min Input Voltage (DC): 6.5V; Max Input Voltage (DC): 32V; Max Input Voltage: 36V; Isolation: Isolated; Supplier 1: Mouser; Manufacturer: Traco Power; Manufacturer Part Number: TSR1-2450; RoHS: Yes; Category: Power Supply Modules; Stock 1: 4430; Pricing 1: 1=6,10000, 10=5,97000, 20=5,79000, 50=5,62000, 100=5,44000, 200=5,26000 (USD); Mount: Through Hole; Case/Package: SIP; Number of Pins: 3; Weight: 1.9g; Min Operating Temperature: -40°C; Max Operating Temperature: 85°C; Power Rating: 5W; Max Output Power: 5W; Min Input Voltage: 6.5V; Output Current: 1A; Output Voltage: 5V; Length: 11.7mm; Height: 10.2mm; Width: 7.6mm; Depth: 7.6mm; Radiation Hardening: No; ComponentLink1URL: https://datasheet.ciiva.com/18019/getdatasheetpartid-421835-18019127.pdf?src-supplier=Verical; ComponentLink1Description: https://datasheet.ciiva.com/18019/getdatasheetpartid-421835-18019127.pdf?src-supplier=Verical; ComponentLink2URL: https://datasheet.ciiva.com/6815/tsr1-6815641.pdf?src-supplier=Newark; ComponentLink2Description: https://datasheet.ciiva.com/6815/tsr1-6815641.pdf?src-supplier=Newark; ComponentLink3URL: https://datasheet.ciiva.com/26330/156673-da-01-de-dc-dc-wandler-1a-tsr-1-2450-26330045.pdf?src-supplier=Conrad; ComponentLink3Description: https://datasheet.ciiva.com/26330/156673-da-01-de-dc-dc-wandler-1a-tsr-1-2450-26330045.pdf?src-supplier=Conrad; ComponentLink4URL: https://datasheet.ciiva.com/3355/tsr1-eng-tds-3355820.pdf?src-supplier=Distrelec; ComponentLink4Description: https://datasheet.ciiva.com/3355/tsr1-eng-tds-3355820.pdf?src-supplier=Distrelec; Supplier Part Number 1: 495-TSR-1-2450
footprint TSR 1-2450
pins: 1 33, 2 34, 3 35
text: +Vin; +Vout; GND